# EAGLE library part LME49726 (library nonolith)
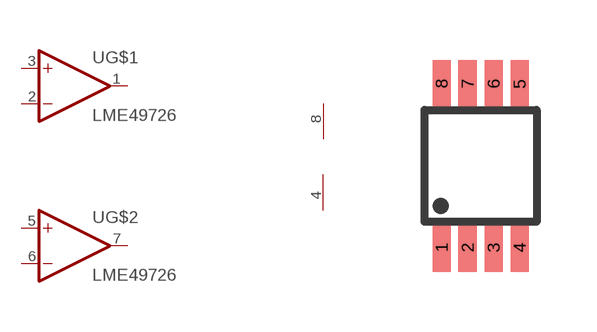
[diagram p33: symbol with the pads of MSOP8; footprint MSOP8]

Designator prefix -; gates G$1=OPAMP G$2=OPAMP G$3=PWR+-

## LME49726  [MSOP8]
1  G$1:OUT  out
2  G$1:-IN  in
3  G$1:+IN  in
4  G$3:V-  pwr
5  G$2:+IN  in
6  G$2:-IN  in
7  G$2:OUT  out
8  G$3:V+  pwr

## Footprint MSOP8 (pad centres in mm)
Micro Small Outline Package
smd 0.45 x 1.2: 1 -0.975,-2.05; 2 -0.325,-2.05; 3 0.325,-2.05; 4 0.975,-2.05; 5 0.975,2.05; 6 0.325,2.05; 7 -0.325,2.05; 8 -0.975,2.05